# EAGLE library part KSZ9021 (library Microchip)
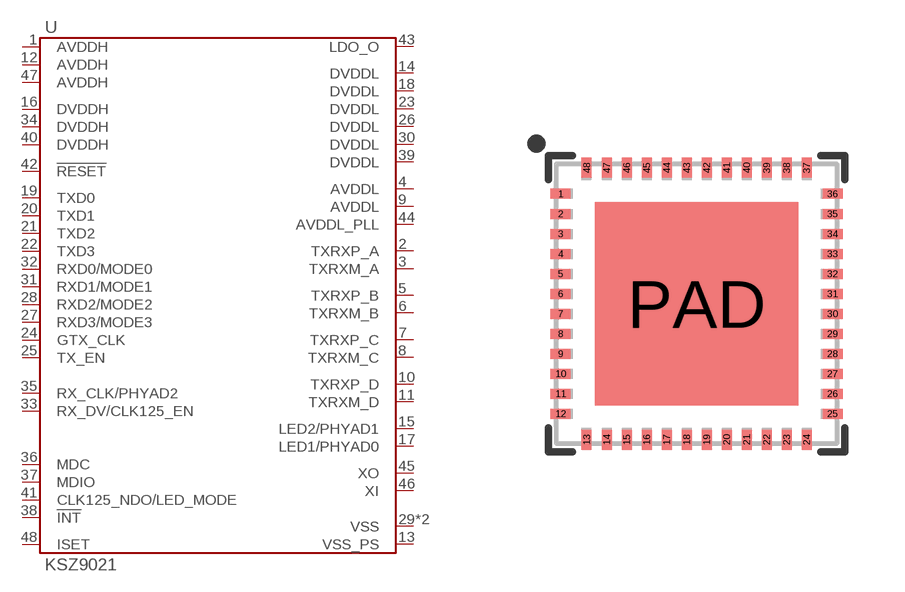
[diagram p12: symbol with the pads of QFN-48; footprint QFN-48]

Designator prefix U

## KSZ9021RN  [QFN-48]
1  AVDDH
2  TXRXP_A
3  TXRXM_A
4  AVDDL
5  TXRXP_B
6  TXRXM_B
7  TXRXP_C
8  TXRXM_C
9  AVDDL
10  TXRXP_D
11  TXRXM_D
12  AVDDH
13  VSS_PS
14  DVDDL
15  LED2/PHYAD1
16  DVDDH
17  LED1/PHYAD0
18  DVDDL
19  TXD0
20  TXD1
21  TXD2
22  TXD3
23  DVDDL
24  GTX_CLK
25  TX_EN
26  DVDDL
27  RXD3/MODE3
28  RXD2/MODE2
29  VSS
30  DVDDL
31  RXD1/MODE1
32  RXD0/MODE0
33  RX_DV/CLK125_EN
34  DVDDH
35  RX_CLK/PHYAD2
36  MDC
37  MDIO
38  !INT
39  DVDDL
40  DVDDH
41  CLK125_NDO/LED_MODE
42  !RESET
43  LDO_O
44  AVDDL_PLL
45  XO
46  XI
47  AVDDH
48  ISET
PAD  VSS

## Footprint QFN-48 (pad centres in mm)
smd 0.5 x 0.25: 1 -3.4,2.75; 2 -3.4,2.25; 3 -3.4,1.75; 4 -3.4,1.25; 5 -3.4,0.75; 6 -3.4,0.25; 7 -3.4,-0.25; 8 -3.4,-0.75; 9 -3.4,-1.25; 10 -3.4,-1.75; 11 -3.4,-2.25; 12 -3.4,-2.75; 25 3.4,-2.75; 26 3.4,-2.25; 27 3.4,-1.75; 28 3.4,-1.25; 29 3.4,-0.75; 30 3.4,-0.25; 31 3.4,0.25; 32 3.4,0.75; 33 3.4,1.25; 34 3.4,1.75; 35 3.4,2.25; 36 3.4,2.75
smd 0.25 x 0.5: 13 -2.75,-3.4; 14 -2.25,-3.4; 15 -1.75,-3.4; 16 -1.25,-3.4; 17 -0.75,-3.4; 18 -0.25,-3.4; 19 0.25,-3.4; 20 0.75,-3.4; 21 1.25,-3.4; 22 1.75,-3.4; 23 2.25,-3.4; 24 2.75,-3.4; 37 2.75,3.4; 38 2.25,3.4; 39 1.75,3.4; 40 1.25,3.4; 41 0.75,3.4; 42 0.25,3.4; 43 -0.25,3.4; 44 -0.75,3.4; 45 -1.25,3.4; 46 -1.75,3.4; 47 -2.25,3.4; 48 -2.75,3.4
smd 5.1 x 5.1: PAD 0,0